# EAGLE library part 87368-22 (library con-molex-milli-grid)
RECEPTACAL
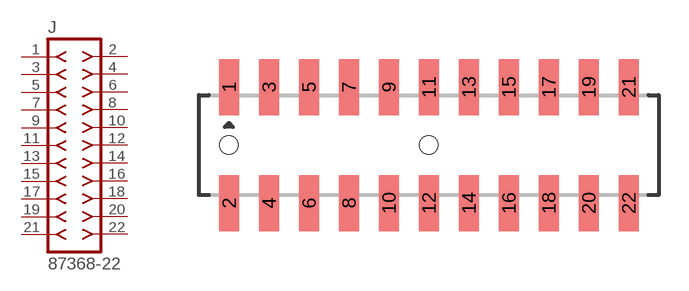
[diagram p190: symbol with the pads of 87368-22; footprint 87368-22]

Designator prefix J

## 87368-22  [87368-22]
1  1  pas
2  2  pas
3  3  pas
4  4  pas
5  5  pas
6  6  pas
7  7  pas
8  8  pas
9  9  pas
10  10  pas
11  11  pas
12  12  pas
13  13  pas
14  14  pas
15  15  pas
16  16  pas
17  17  pas
18  18  pas
19  19  pas
20  20  pas
21  21  pas
22  22  pas

## Footprint 87368-22 (pad centres in mm)
RECEPTACAL SMD Dual Row, Side Entry
smd 1 x 2.8: 1 -10,2.9; 2 -10,-2.9; 3 -8,2.9; 4 -8,-2.9; 5 -6,2.9; 6 -6,-2.9; 7 -4,2.9; 8 -4,-2.9; 9 -2,2.9; 10 -2,-2.9; 11 0,2.9; 12 0,-2.9; 13 2,2.9; 14 2,-2.9; 15 4,2.9; 16 4,-2.9; 17 6,2.9; 18 6,-2.9; 19 8,2.9; 20 8,-2.9; 21 10,2.9; 22 10,-2.9
hole 0.914 at -10,0
hole 0.914 at 0,0